# Altium schematic symbol library Diodes.SchLib: 62 symbols
Pins are listed as number, name and electrical type; pins without a type are passive.

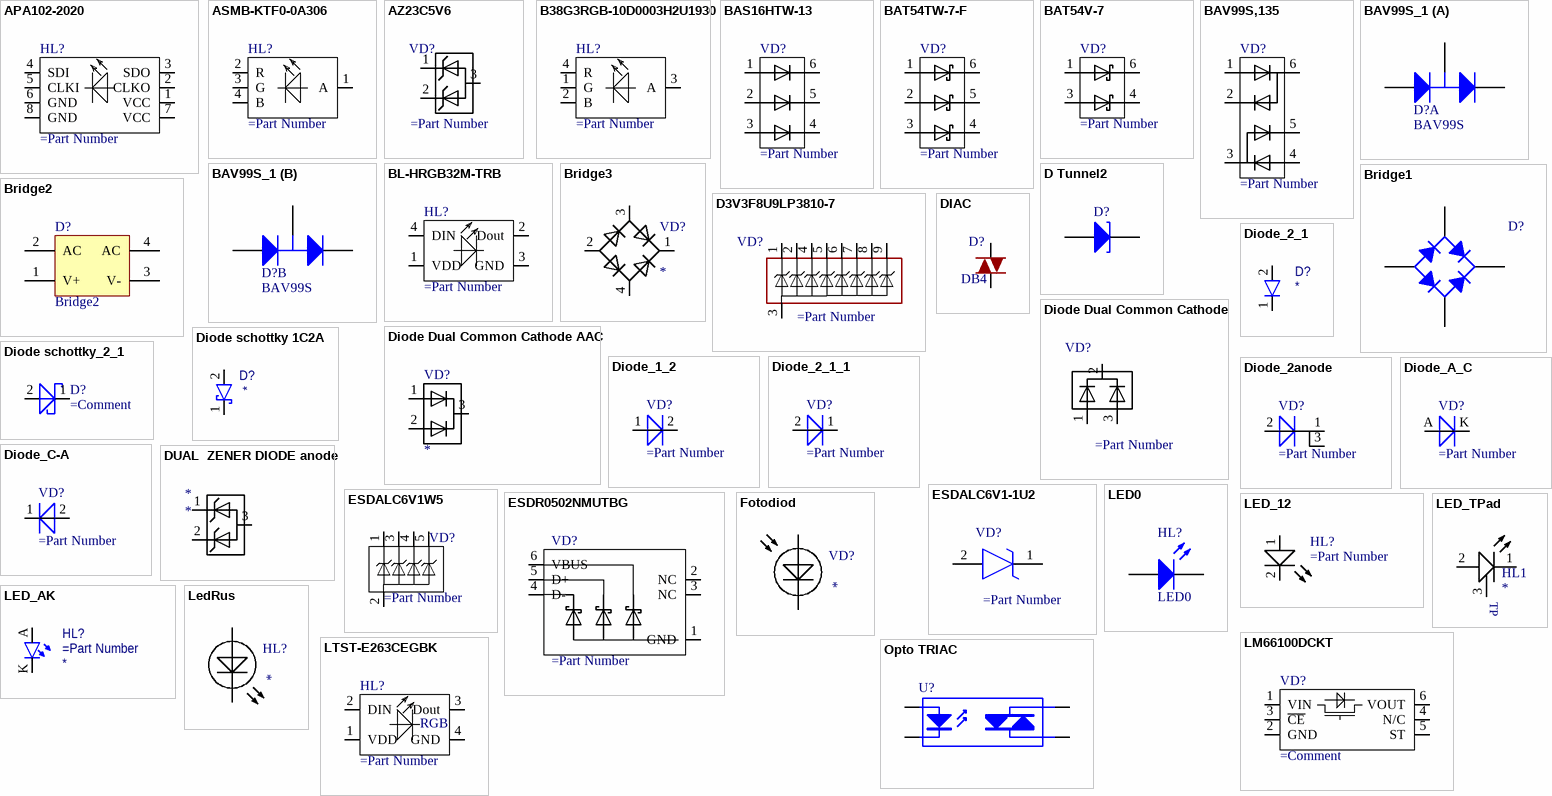
[diagram p0: symbols APA102-2020 to Opto TRIAC]

## APA102-2020
designator HL?
pins: 1 VCC, 2 CLKO, 3 SDO, 4 SDI, 5 CLKI, 6 GND, 7 VCC, 8 GND

## ASMB-KTF0-0A306
designator HL?
pins: 1 A, 2 R, 3 G, 4 B

## AZ23C5V6
designator VD?
pins: 1, 2, 3

## B38G3RGB-10D0003H2U1930
designator HL?
pins: 1 G, 2 B, 3 A, 4 R

## BAS16HTW-13
designator VD?
pins: 1, 2, 3, 4, 5, 6

## BAT54TW-7-F
designator VD?
pins: 1, 2, 3, 4, 5, 6

## BAT54V-7
designator VD?
pins: 1, 3, 4, 6

## BAV99S,135
designator VD?
pins: 1, 2, 3, 4, 5, 6

## BAV99S_1
designator D?, comment BAV99S
Silicon Switching Diode Array for High-Speed Switching; Published: 21-Mar-2003; DatasheetDocument: Oct-1999; PackageDocument: Sep-2000; PackageReference: SOT-363; Publisher: Altium Limited; ComponentLink1Description: Manufacturer Link; ComponentLink1URL: http://www.infineon.com/; ComponentLink2Description: Datasheet; ComponentLink2URL: http://www.infineon.com/upload/Document/cmc_upload/documents/080/785/bav99series.pdf
footprint SOT-363 (SOT-363/SC-88; 6 Leads; Body 2.2 x 2.2 mm, inc. leads (LxW max))
simulation model BAV99 (SUBCKT)
part A pins: 1 A, 2 K, 6 C
part B pins: 3 C, 4 A, 5 K

## BL-HRGB32M-TRB
designator HL?
footprint 440055-3
pins: 1 VDD, 2 Dout, 3 GND, 4 DIN

## Bridge1
designator D?
Full Wave Diode Bridge; Published: 8-Jun-2000; LatestRevisionDate: 29-May-2009; LatestRevisionNote: Sch pins A & K swapped.; DatasheetVersion: E2732B; PackageReference: D-38; Publisher: Altium Limited; PackageDescription: Bridge Rectifier; 4 Terminals; Body 9.4 x 9.4 mm (typ); Pitch 5.08 mm
pins: 1 K, 2 C, 3 A, 4 C

## Bridge2
designator D?
Diode Bridge; Published: 24-Mar-1999; LatestRevisionDate: 17-Jul-2002; LatestRevisionNote: Re-released for DXP Platform.; PackageReference: D-46_6A; Publisher: Altium Limited; PackageDescription: Bridge Rectifier; 4 Terminals; Body 16.8 x 16.8 mm (typ); Pitch 10.67 mm
pins: 1 V+, 2 AC, 3 V-, 4 AC

## Bridge3
designator VD?
pins: 1 C, 2 A, 3 C, 4 C

## D3V3F8U9LP3810-7
designator VD?
pins: 1 I/01, 2 GND, 3 I/02, 4 I/03, 5 I/04, 6 I/04, 7 I/04, 8 I/04, 9 I/04

## D Tunnel2
designator D?
Tunnel Diode - Dependent Source Model; Published: 15-Apr-2002; LatestRevisionDate: 17-Jul-2002; LatestRevisionNote: Re-released for DXP Platform.; PackageReference: DIODE-0.4; Publisher: Altium Limited; PackageDescription: Diode, Thru-Hole; 2 Leads; 0.4 in Pin Spacing
pins: 1 A, 2 K

## DIAC
designator D?, comment DB4
pins: 1 K, 2 A

## Diode Dual Common Cathode
designator VD?
pins: 1, 2, 3

## Diode Dual Common Cathode AAC
designator VD?
pins: 1, 2, 3

## Diode schottky 1C2A
designator D?
pins: 1 K, 2 A

## Diode schottky_2_1
designator D?
pins: 1 K, 2 A

## Diode_1_2
designator VD?
pins: 1, 2

## Diode_2_1
designator D?
pins: 1 C, 2 A

## Diode_2_1_1
designator VD?
pins: 1, 2

## Diode_2anode
designator VD?
Published: 8-Jun-2000; LatestRevisionDate: 17-Jul-2002; LatestRevisionNote: Re-released for DXP Platform.; DatasheetVersion: 1997; PackageReference: DO-35; Publisher: Altium Limited; PackageDescription: Diode, Axial; Body 3.8 x 1.9 mm (LxDia. max), Lead Dia. 0.53 mm (max); Code_JEDEC: DO-204-AH; ComponentLink1Description: Manufacturer Link; ComponentLink1URL: http://www.fairchildsemi.com/; ComponentLink2Description: Datasheet; ComponentLink2URL: http://www.fairchildsemi.com/ds/1N%2F1N4148.pdf
pins: 1, 2, 3

## Diode_A_C
designator VD?
pins: A, K

## Diode_C-A
designator VD?
Published: 8-Jun-2000; LatestRevisionDate: 17-Jul-2002; LatestRevisionNote: Re-released for DXP Platform.; DatasheetVersion: 1997; PackageReference: DO-35; Publisher: Altium Limited; PackageDescription: Diode, Axial; Body 3.8 x 1.9 mm (LxDia. max), Lead Dia. 0.53 mm (max); Code_JEDEC: DO-204-AH; ComponentLink1Description: Manufacturer Link; ComponentLink1URL: http://www.fairchildsemi.com/; ComponentLink2Description: Datasheet; ComponentLink2URL: http://www.fairchildsemi.com/ds/1N%2F1N4148.pdf
pins: 1 C, 2 A

## DUAL  ZENER DIODE anode
designator *
pins: 1, 2, 3

## ESDALC6V1-1U2
designator VD?
pins: 1 K, 2 A

## ESDALC6V1W5
designator VD?
Integrated Circuit; Manufacturer_Name: STMicroelectronics; Manufacturer_Part_Number: ESDALC6V1W5; Datasheet Link: http://www.st.com/web/en/resource/technical/document/datasheet/CD00002946.pdf; Height: 1.1mm; Mouser Part Number: 511-ESDALC6V1W5; Mouser Price/Stock: https://www.mouser.co.uk/ProductDetail/STMicroelectronics/ESDALC6V1W5?qs=C%2FEejvvdwQ4xcyFnfrFaDw%3D%3D; Arrow Part Number: ESDALC6V1W5; Arrow Price/Stock: https://www.arrow.com/en/products/esdalc6v1w5/stmicroelectronics?region=nac
footprint SOT65P210X110-5N
pins: 1 I/01, 2 GND, 3 I/02, 4 I/03, 5 I/04

## ESDR0502NMUTBG
designator VD?
footprint 6UDFN
pins: 1 GND, 2 NC, 3 NC, 4 D-, 5 D+, 6 VBUS

## Fotodiod
designator VD?
pins: 1, 2

## LED0
designator HL?
Typical INFRARED GaAs LED; Published: 8-Jun-2000; LatestRevisionDate: 08-Jul-2005; LatestRevisionNote: Mech Layer 1 removed.; PackageReference: LED-0; Publisher: Altium Limited; PackageDescription: LED; 2 Leads
pins: 1 A, 2 K

## LED_12
designator HL?
pins: 1 A, 2 K

## LED_AK
designator HL?
Color: *; Silk: *
pins: A, K

## LED_TPad
designator HL1
footprint LED_5630 (SMD LED 5630)
pins: 1 K, 2 A, 3 ThermalPad
text: TP

## LedRus
designator HL?
pins: 1, 2

## LM66100DCKT
designator VD?
pins: 1 VIN, 2 GND, 3 ~{CE}, 4 N/C, 5 ST, 6 VOUT

## LTST-E263CEGBK
designator HL?
pins: 1 VDD, 2 DIN, 3 Dout, 4 GND
text: RGB

## Opto TRIAC
designator U?
Opto-Triac; Published: 24-Mar-1999; LatestRevisionDate: 17-Jul-2002; LatestRevisionNote: Re-released for DXP Platform.; PackageReference: NPSIP4A; Publisher: Altium Limited; PackageDescription: SIP; 4 Leads; Body 10 x 11.5 x 7.5 mm (typ); Pitch 2.54 mm
pins: 1 A, 2 K, 3 A/K, 4 A/K

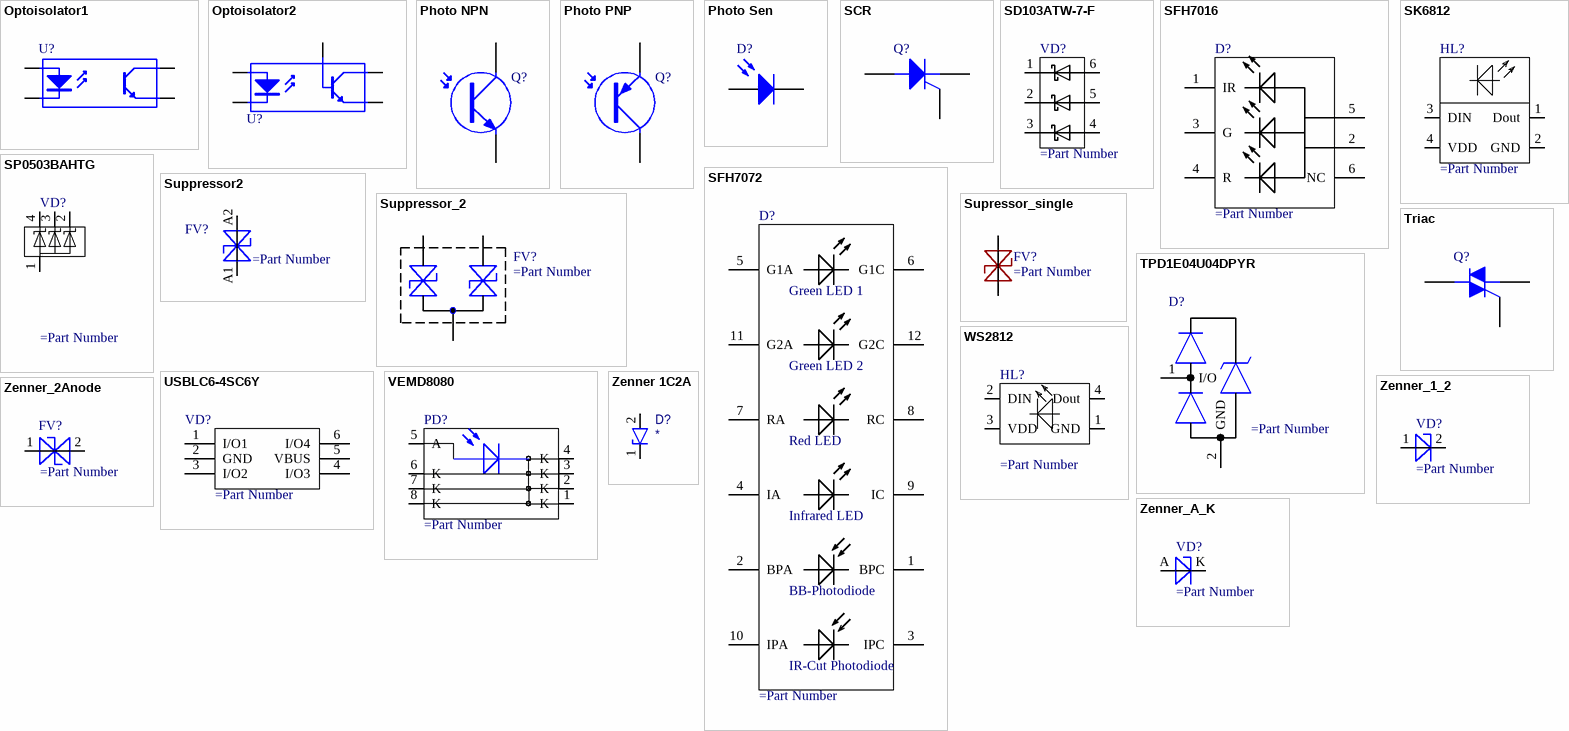
[diagram p1: symbols Optoisolator1 to Zenner_A_K]

## Optoisolator1
designator U?
4-Pin Phototransistor Optocoupler; Published: 24-Mar-1999; LatestRevisionDate: 04-Mar-2005; LatestRevisionNote: Sch pins 3 & 4 Swapped.; DatasheetVersion: Nov-2003; PackageReference: DIP-4; Publisher: Altium Limited
pins: 1 A "Anode", 2 K "Cathode", 3 E "Emitter", 4 C "Collector"

## Optoisolator2
designator U?
5 Pin Mini Flat Pack Optocoupler; Published: 24-Mar-1999; LatestRevisionDate: 04-Mar-2005; LatestRevisionNote: PCB Footprint replaced, Sch pins re-numbered.; DatasheetVersion: Apr-2004; PackageReference: SOP5(6); Publisher: Altium Limited; PackageDescription: Small Outline; 6 Leads (1 Absent); Body Width 4.4 mm; Pitch 1.27 mm
pins: 1 A "Anode", 3 K "Cathode", 4 E "Emitter", 5 C "Collector", 6 B "Base"

## Photo NPN
designator Q?
NPN Phototransistor; Published: 24-Mar-1999; LatestRevisionDate: 17-Jul-2002; LatestRevisionNote: Re-released for DXP Platform.; PackageReference: TO-220_A; Publisher: Altium Limited; Code_JEDEC: TO-220-AC
pins: 1 C, 3 E

## Photo PNP
designator Q?
PNP Phototransistor; Published: 24-Mar-1999; LatestRevisionDate: 17-Jul-2002; LatestRevisionNote: Re-released for DXP Platform.; PackageReference: TO-220_A; Publisher: Altium Limited; Code_JEDEC: TO-220-AC
pins: 1 C, 3 E

## Photo Sen
designator D?
Photosensitive Diode; Published: 24-Mar-1999; LatestRevisionDate: 17-Jul-2002; LatestRevisionNote: Re-released for DXP Platform.; PackageReference: PIN2; Publisher: Altium Limited
pins: 1 A, 2 K

## SCR
designator Q?
Silicon Controlled Rectifier; Published: 8-Jun-2000; LatestRevisionDate: 17-Jul-2002; LatestRevisionNote: Re-released for DXP Platform.; PackageReference: TO-220-AB; Publisher: Altium Limited; Code_JEDEC: TO-220-AB
pins: 1 A, 2 G, 3 K

## SD103ATW-7-F
designator VD?
pins: 1, 2, 3, 4, 5, 6

## SFH7016
designator D?
pins: 1 IR, 2 ANODE_1, 3 G, 4 R, 5 ANODE_2, 6 NC

## SFH7072
designator D?
LED; Manufacturer_Name: OSRAM; Datasheet Link: https://www.osram.com/os/ecat/SFH%207072/com/en/class_pim_web_catalog_103489/global/prd_pim_device_2220016/; Height: 1mm; Manufacturer_Part_Number: SFH 7072; Mouser Part Number: 720-SFH7072; Mouser Price/Stock: https://www.mouser.co.uk/ProductDetail/OSRAM-Opto-Semiconductors/SFH-7072?qs=z7LT7PaeiGG8Z1lS%2FKUVZA%3D%3D; Arrow Part Number: SFH 7072; Arrow Price/Stock: https://www.arrow.com/en/products/sfh7072/osram-opto-semiconductors
footprint SFH7072
pins: 1 BPC, 2 BPA, 3 IPC, 4 IA, 5 G1A, 6 G1C, 7 RA, 8 RC, 9 IC, 10 IPA, 11 G2A, 12 G2C
text: Green LED 1; Green LED 2; Red LED; Infrared LED; BB-Photodiode; IR-Cut Photodiode

## SK6812
designator HL?
footprint 440055-3
pins: 1 Dout, 2 GND, 3 DIN, 4 VDD

## SP0503BAHTG
designator VD?
pins: 1, 2, 3, 4

## Suppressor2
designator FV?
High Conductance Fast Diode; Published: 8-Jun-2000; LatestRevisionDate: 17-Jul-2002; LatestRevisionNote: Re-released for DXP Platform.; DatasheetVersion: 1997; PackageReference: DO-35; Publisher: Altium Limited; PackageDescription: Diode, Axial; Body 3.8 x 1.9 mm (LxDia. max), Lead Dia. 0.53 mm (max); Code_JEDEC: DO-204-AH; ComponentLink1Description: Manufacturer Link; ComponentLink1URL: http://www.fairchildsemi.com/; ComponentLink2Description: Datasheet; ComponentLink2URL: http://www.fairchildsemi.com/ds/1N%2F1N4148.pdf
pins: A1, A2

## Suppressor_2
designator FV?
High Conductance Fast Diode; Published: 8-Jun-2000; LatestRevisionDate: 17-Jul-2002; LatestRevisionNote: Re-released for DXP Platform.; DatasheetVersion: 1997; PackageReference: DO-35; Publisher: Altium Limited; PackageDescription: Diode, Axial; Body 3.8 x 1.9 mm (LxDia. max), Lead Dia. 0.53 mm (max); Code_JEDEC: DO-204-AH; ComponentLink1Description: Manufacturer Link; ComponentLink1URL: http://www.fairchildsemi.com/; ComponentLink2Description: Datasheet; ComponentLink2URL: http://www.fairchildsemi.com/ds/1N%2F1N4148.pdf
pins: 1, 2, 3

## Supressor_single
designator FV?
pins: 1, 2

## TPD1E04U04DPYR
designator D?
pins: 1 I/O, 2 GND

## Triac
designator Q?
Silicon Bidirectional Triode Thyristor; Note: Pin 2 is electrically connected to Pin 4 (TAB); Published: 29-Sep-2000; LatestRevisionDate: 17-Jul-2002; LatestRevisionNote: Re-released for DXP Platform.; DatasheetVersion: 1999; PackageReference: 369-03; Publisher: Altium Limited; PackageDescription: TO, Thru-Hole, Vertical, Heatsink Mounted; 3 In-Line Leads; Pitch 2.28 mm; ComponentLink1Description: Manufacturer Link; ComponentLink1URL: http://www.motorola.com/
pins: 1 M1, 2 M2, 3 G

## USBLC6-4SC6Y
designator VD?
pins: 1 I/O1, 2 GND, 3 I/O2, 4 I/O3, 5 VBUS, 6 I/O4

## VEMD8080
designator PD?
pins: 1 K, 2 K, 3 K, 4 K, 5 A, 6 K, 7 K, 8 K

## WS2812
designator HL?
pins: 1 GND, 2 DIN, 3 VDD, 4 Dout

## Zenner 1C2A
designator D?
Published: 8-Jun-2000; LatestRevisionDate: 17-Jul-2002; LatestRevisionNote: Re-released for DXP Platform.; DatasheetVersion: 1997; PackageReference: DO-35; Publisher: Altium Limited; PackageDescription: Diode, Axial; Body 3.8 x 1.9 mm (LxDia. max), Lead Dia. 0.53 mm (max); Code_JEDEC: DO-204-AH; ComponentLink1Description: Manufacturer Link; ComponentLink1URL: http://www.fairchildsemi.com/; ComponentLink2Description: Datasheet; ComponentLink2URL: http://www.fairchildsemi.com/ds/1N%2F1N4148.pdf
pins: 1 K, 2 A

## Zenner_1_2
designator VD?
Published: 8-Jun-2000; LatestRevisionDate: 17-Jul-2002; LatestRevisionNote: Re-released for DXP Platform.; DatasheetVersion: 1997; PackageReference: DO-35; Publisher: Altium Limited; PackageDescription: Diode, Axial; Body 3.8 x 1.9 mm (LxDia. max), Lead Dia. 0.53 mm (max); Code_JEDEC: DO-204-AH; ComponentLink1Description: Manufacturer Link; ComponentLink1URL: http://www.fairchildsemi.com/; ComponentLink2Description: Datasheet; ComponentLink2URL: http://www.fairchildsemi.com/ds/1N%2F1N4148.pdf
pins: 1 A, 2 K

## Zenner_2Anode
designator FV?
High Conductance Fast Diode; Published: 8-Jun-2000; LatestRevisionDate: 17-Jul-2002; LatestRevisionNote: Re-released for DXP Platform.; DatasheetVersion: 1997; PackageReference: DO-35; Publisher: Altium Limited; PackageDescription: Diode, Axial; Body 3.8 x 1.9 mm (LxDia. max), Lead Dia. 0.53 mm (max); Code_JEDEC: DO-204-AH; ComponentLink1Description: Manufacturer Link; ComponentLink1URL: http://www.fairchildsemi.com/; ComponentLink2Description: Datasheet; ComponentLink2URL: http://www.fairchildsemi.com/ds/1N%2F1N4148.pdf
pins: 1, 2

## Zenner_A_K
designator VD?
Published: 8-Jun-2000; LatestRevisionDate: 17-Jul-2002; LatestRevisionNote: Re-released for DXP Platform.; DatasheetVersion: 1997; PackageReference: DO-35; Publisher: Altium Limited; PackageDescription: Diode, Axial; Body 3.8 x 1.9 mm (LxDia. max), Lead Dia. 0.53 mm (max); Code_JEDEC: DO-204-AH; ComponentLink1Description: Manufacturer Link; ComponentLink1URL: http://www.fairchildsemi.com/; ComponentLink2Description: Datasheet; ComponentLink2URL: http://www.fairchildsemi.com/ds/1N%2F1N4148.pdf
pins: A, K